# Altium integrated library Analog Devices Data Converters Digital-to-Analog Converters.IntLib: 2231 symbols (part 168 of 181)
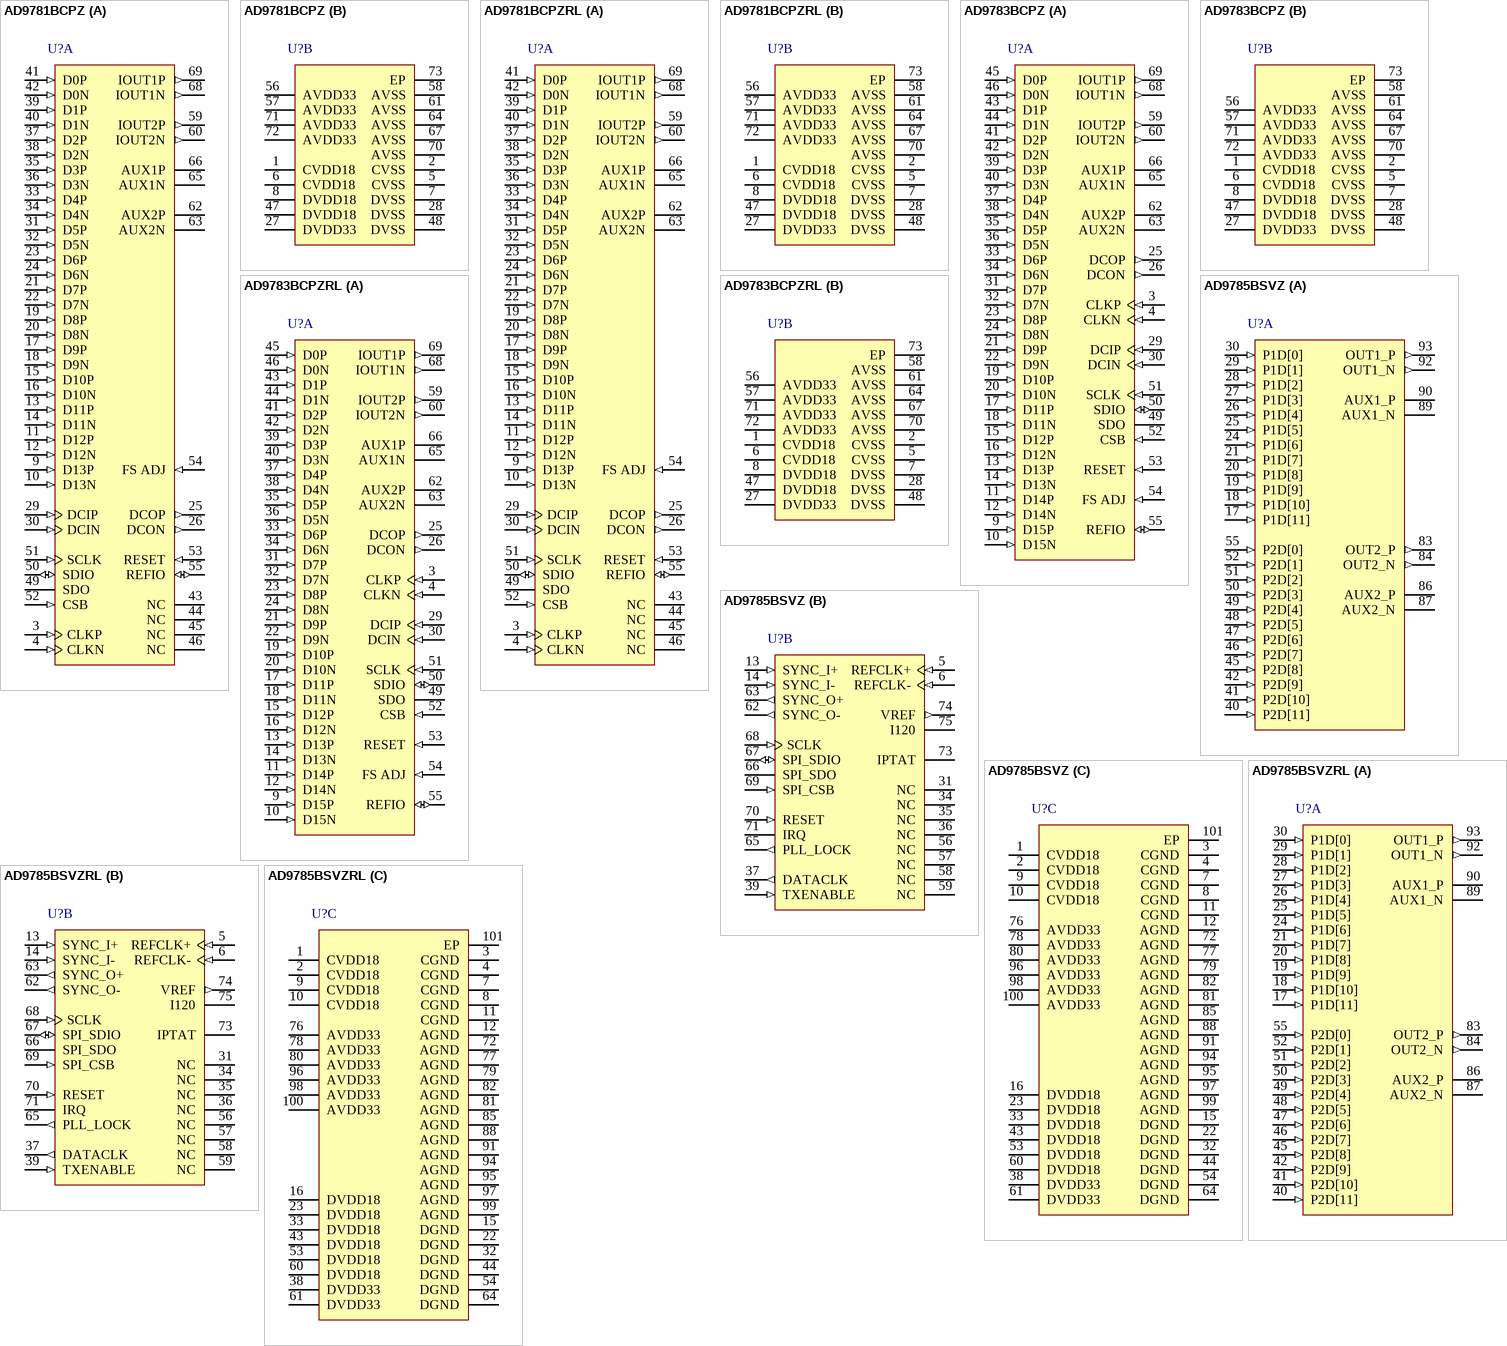
[diagram p281: symbols AD9781BCPZ to AD9785BSVZRL]

## AD9781BCPZ
designator U?
14-Bit Digital-to-Analog Converter with LVDS Interface, -40 to +85 degC, CP-72-1, Pb-Free, Tray; Generic Part Number: AD9781; Manufacturer: Analog Devices; PartNumber: AD9781BCPZ; # DAC Outputs: 2; Max V+: 3.47V; Op Pwr Diss: 462.3mW; Resolution (Bits): 14; Single Supply: No; DatasheetVersion: Rev. B; PackageVersion: 06-07-2012-A; PackageReference: CP-72-1; PackageDescription: 72-Lead Lead Frame Chip Scale Package [LFCSP_VQ] 10 x 10 mm Body, Very Thin Quad; Supplier 1: Digi-Key; Supplier Part Number 1: AD9781BCPZ-ND; Supplier 2: Mouser; Supplier Part Number 2: 584-AD9781BCPZ; Packing: Tray; RoHS: Y; Mounting Technology: Surface Mount; Code_JEDEC: MO-220-VNND-4; ComponentLink1Description: Manufacturer URL; ComponentLink1URL: http://www.analog.com/en/index.html; ComponentLink2Description: Datasheet; ComponentLink2URL: http://www.analog.com/static/imported-files/data_sheets/AD9780_9781_9783.pdf; ComponentLink3Description: Package Specification; ComponentLink3URL: http://www.analog.com/static/imported-files/packages/CP_72_1.pdf; ComponentLink4Description: Product URL; ComponentLink4URL: http://www.analog.com/en/digital-to-analog-converters/da-converters/ad9781/products/product.html
footprint CP-72-1_N (QFN, 72-Leads, Body 10x10mm, Pitch 0.5mm, Thermal Pad 4.7x4.7mm, IPC Medium Density)
footprint CP-72-1_L (QFN, 72-Leads, Body 10x10mm, Pitch 0.5mm, Thermal Pad 4.7x4.7mm, IPC High Density)
footprint CP-72-1_M (QFN, 72-Leads, Body 10x10mm, Pitch 0.5mm, Thermal Pad 4.7x4.7mm, IPC Low Density)
part A pins: 3 CLKP (in) "Differential DAC Sampling Clock Input.", 4 CLKN (in) "Differential DAC Sampling Clock Input.", 9 D13P (in) "LVDS Data Input.D13 is the MSB.", 10 D13N (in) "LVDS Data Input.D13 is the MSB.", 11 D12P (in) "LVDS Data Input.", 12 D12N (in) "LVDS Data Input.", 13 D11P (in) "LVDS Data Input.", 14 D11N (in) "LVDS Data Input.", 15 D10P (in) "LVDS Data Input.", 16 D10N (in) "LVDS Data Input.", 17 D9P (in) "LVDS Data Input.", 18 D9N (in) "LVDS Data Input.", 19 D8P (in) "LVDS Data Input.", 20 D8N (in) "LVDS Data Input.", 21 D7P (in) "LVDS Data Input.", 22 D7N (in) "LVDS Data Input.", 23 D6P (in) "LVDS Data Input.", 24 D6N (in) "LVDS Data Input.", 25 DCOP (out) "Differential Data Clock Output. Clock at the DAC sample rate.", 26 DCON (out) "Differential Data Clock Output. Clock at the DAC sample rate.", 29 DCIP (in) "Differential Data Clock Input Clock aligned with input data.", 30 DCIN (in) "Differential Data Clock Input Clock aligned with input data.", 31 D5P (in) "LVDS Data Input.", 32 D5N (in) "LVDS Data Input.", 33 D4P (in) "LVDS Data Input.", 34 D4N (in) "LVDS Data Input.", 35 D3P (in) "LVDS Data Input.", 36 D3N (in) "LVDS Data Input.", 37 D2P (in) "LVDS Data Input.", 38 D2N (in) "LVDS Data Input.", 39 D1P (in) "LVDS Data Input.", 40 D1N (in) "LVDS Data Input.", 41 D0P (in) "LVDS Data Input.D0 is the LSB.", 42 D0N (in) "LVDS Data Input.D0 is the LSB.", 43 NC "No Connection. Leave these pins floating.", 44 NC "No Connection. Leave these pins floating.", 45 NC "No Connection. Leave these pins floating.", 46 NC "No Connection. Leave these pins floating.", 49 SDO (hiz) "Serial Port Data Output.", 50 SDIO (io) "Serial Port Data Input (4-Wire Mode) or Bidirectional Serial Data Line (3-Wire Mode).", 51 SCLK (in) "Serial Port Clock Input.", 52 CSB (in) "Serial Port Chip Select (Active Low).", 53 RESET (in) "Chip Reset (Active High).", 54 FS ADJ (in) "Full-Scale Current Output Adjust.", 55 REFIO (io) "Analog Reference Input/Output (1.2 V Nominal).", 59 IOUT2P (out) "DAC Current Output. Full-scale current is sourced when all data bits are 1s.", 60 IOUT2N (out) "Complementary DAC Current Output. Full-scale current is sourced when all data bits are 0s.", 62 AUX2P (hiz) "Differential Auxiliary DAC Current Output (Channel 2).", 63 AUX2N (hiz) "Differential Auxiliary DAC Current Output (Channel 2).", 65 AUX1N (hiz) "Differential Auxiliary DAC Current Output (Channel 1).", 66 AUX1P (hiz) "Differential Auxiliary DAC Current Output (Channel 1).", 68 IOUT1N (out) "Complementary DAC Current Output. Full-scale current is sourced when all data bits are 0s.", 69 IOUT1P (out) "DAC Current Output. Full-scale current is sourced when all data bits are 1s."
part B pins: 1 CVDD18 (power) "Clock Supply Voltage (1.8 V).", 2 CVSS (power) "Clock Supply Return.", 5 CVSS (power) "Clock Supply Return.", 6 CVDD18 (power) "Clock Supply Voltage (1.8 V).", 7 DVSS (power) "Digital Common.", 8 DVDD18 (power) "Digital Supply Voltage (1.8 V).", 27 DVDD33 (power) "Digital Input and Output Pad Ring Supply Voltage (3.3 V).", 28 DVSS (power) "Digital Common.", 47 DVDD18 (power) "Digital Supply Voltage (1.8 V).", 48 DVSS (power) "Digital Common.", 56 AVDD33 (power) "Analog Supply Voltage (3.3 V).", 57 AVDD33 (power) "Analog Supply Voltage (3.3 V).", 58 AVSS (power) "Analog Common.", 61 AVSS (power) "Analog Common.", 64 AVSS (power) "Analog Common.", 67 AVSS (power) "Analog Common.", 70 AVSS (power) "Analog Common.", 71 AVDD33 (power) "Analog Supply Voltage (3.3 V).", 72 AVDD33 (power) "Analog Supply Voltage (3.3 V).", 73 EP (power) "The heat sink pad on the bottom of the package should be soldered to the PCB plane that carries AVSS."

## AD9781BCPZRL
designator U?
14-Bit Digital-to-Analog Converter with LVDS Interface, -40 to +85 degC, CP-72-1, Pb-Free, Reel; Generic Part Number: AD9781; Manufacturer: Analog Devices; PartNumber: AD9781BCPZRL; # DAC Outputs: 2; Max V+: 3.47V; Op Pwr Diss: 462.3mW; Resolution (Bits): 14; Single Supply: No; DatasheetVersion: Rev. B; PackageVersion: 06-07-2012-A; PackageReference: CP-72-1; PackageDescription: 72-Lead Lead Frame Chip Scale Package [LFCSP_VQ] 10 x 10 mm Body, Very Thin Quad; Supplier 1: Digi-Key; Supplier Part Number 1: AD9781BCPZRL-ND; Supplier 2: Mouser; Supplier Part Number 2: 584-AD9781BCPZR; Packing: Reel; RoHS: Y; Mounting Technology: Surface Mount; Code_JEDEC: MO-220-VNND-4; ComponentLink1Description: Manufacturer URL; ComponentLink1URL: http://www.analog.com/en/index.html; ComponentLink2Description: Datasheet; ComponentLink2URL: http://www.analog.com/static/imported-files/data_sheets/AD9780_9781_9783.pdf; ComponentLink3Description: Package Specification; ComponentLink3URL: http://www.analog.com/static/imported-files/packages/CP_72_1.pdf; ComponentLink4Description: Product URL; ComponentLink4URL: http://www.analog.com/en/digital-to-analog-converters/da-converters/ad9781/products/product.html
footprint CP-72-1_N (QFN, 72-Leads, Body 10x10mm, Pitch 0.5mm, Thermal Pad 4.7x4.7mm, IPC Medium Density)
footprint CP-72-1_L (QFN, 72-Leads, Body 10x10mm, Pitch 0.5mm, Thermal Pad 4.7x4.7mm, IPC High Density)
footprint CP-72-1_M (QFN, 72-Leads, Body 10x10mm, Pitch 0.5mm, Thermal Pad 4.7x4.7mm, IPC Low Density)
part A pins: 3 CLKP (in) "Differential DAC Sampling Clock Input.", 4 CLKN (in) "Differential DAC Sampling Clock Input.", 9 D13P (in) "LVDS Data Input.D13 is the MSB.", 10 D13N (in) "LVDS Data Input.D13 is the MSB.", 11 D12P (in) "LVDS Data Input.", 12 D12N (in) "LVDS Data Input.", 13 D11P (in) "LVDS Data Input.", 14 D11N (in) "LVDS Data Input.", 15 D10P (in) "LVDS Data Input.", 16 D10N (in) "LVDS Data Input.", 17 D9P (in) "LVDS Data Input.", 18 D9N (in) "LVDS Data Input.", 19 D8P (in) "LVDS Data Input.", 20 D8N (in) "LVDS Data Input.", 21 D7P (in) "LVDS Data Input.", 22 D7N (in) "LVDS Data Input.", 23 D6P (in) "LVDS Data Input.", 24 D6N (in) "LVDS Data Input.", 25 DCOP (out) "Differential Data Clock Output. Clock at the DAC sample rate.", 26 DCON (out) "Differential Data Clock Output. Clock at the DAC sample rate.", 29 DCIP (in) "Differential Data Clock Input Clock aligned with input data.", 30 DCIN (in) "Differential Data Clock Input Clock aligned with input data.", 31 D5P (in) "LVDS Data Input.", 32 D5N (in) "LVDS Data Input.", 33 D4P (in) "LVDS Data Input.", 34 D4N (in) "LVDS Data Input.", 35 D3P (in) "LVDS Data Input.", 36 D3N (in) "LVDS Data Input.", 37 D2P (in) "LVDS Data Input.", 38 D2N (in) "LVDS Data Input.", 39 D1P (in) "LVDS Data Input.", 40 D1N (in) "LVDS Data Input.", 41 D0P (in) "LVDS Data Input.D0 is the LSB.", 42 D0N (in) "LVDS Data Input.D0 is the LSB.", 43 NC "No Connection. Leave these pins floating.", 44 NC "No Connection. Leave these pins floating.", 45 NC "No Connection. Leave these pins floating.", 46 NC "No Connection. Leave these pins floating.", 49 SDO (hiz) "Serial Port Data Output.", 50 SDIO (io) "Serial Port Data Input (4-Wire Mode) or Bidirectional Serial Data Line (3-Wire Mode).", 51 SCLK (in) "Serial Port Clock Input.", 52 CSB (in) "Serial Port Chip Select (Active Low).", 53 RESET (in) "Chip Reset (Active High).", 54 FS ADJ (in) "Full-Scale Current Output Adjust.", 55 REFIO (io) "Analog Reference Input/Output (1.2 V Nominal).", 59 IOUT2P (out) "DAC Current Output. Full-scale current is sourced when all data bits are 1s.", 60 IOUT2N (out) "Complementary DAC Current Output. Full-scale current is sourced when all data bits are 0s.", 62 AUX2P (hiz) "Differential Auxiliary DAC Current Output (Channel 2).", 63 AUX2N (hiz) "Differential Auxiliary DAC Current Output (Channel 2).", 65 AUX1N (hiz) "Differential Auxiliary DAC Current Output (Channel 1).", 66 AUX1P (hiz) "Differential Auxiliary DAC Current Output (Channel 1).", 68 IOUT1N (out) "Complementary DAC Current Output. Full-scale current is sourced when all data bits are 0s.", 69 IOUT1P (out) "DAC Current Output. Full-scale current is sourced when all data bits are 1s."
part B pins: 1 CVDD18 (power) "Clock Supply Voltage (1.8 V).", 2 CVSS (power) "Clock Supply Return.", 5 CVSS (power) "Clock Supply Return.", 6 CVDD18 (power) "Clock Supply Voltage (1.8 V).", 7 DVSS (power) "Digital Common.", 8 DVDD18 (power) "Digital Supply Voltage (1.8 V).", 27 DVDD33 (power) "Digital Input and Output Pad Ring Supply Voltage (3.3 V).", 28 DVSS (power) "Digital Common.", 47 DVDD18 (power) "Digital Supply Voltage (1.8 V).", 48 DVSS (power) "Digital Common.", 56 AVDD33 (power) "Analog Supply Voltage (3.3 V).", 57 AVDD33 (power) "Analog Supply Voltage (3.3 V).", 58 AVSS (power) "Analog Common.", 61 AVSS (power) "Analog Common.", 64 AVSS (power) "Analog Common.", 67 AVSS (power) "Analog Common.", 70 AVSS (power) "Analog Common.", 71 AVDD33 (power) "Analog Supply Voltage (3.3 V).", 72 AVDD33 (power) "Analog Supply Voltage (3.3 V).", 73 EP (power) "The heat sink pad on the bottom of the package should be soldered to the PCB plane that carries AVSS."

## AD9783BCPZ
designator U?
16-Bit Digital-to-Analog Converter with LVDS Interface, -40 to +85 degC, CP-72-1, Pb-Free, Tray; Generic Part Number: AD9783; Manufacturer: Analog Devices; PartNumber: AD9783BCPZ; # DAC Outputs: 2; Max V+: 3.47V; Op Pwr Diss: 462.3mW; Resolution (Bits): 16; Single Supply: No; DatasheetVersion: Rev. B; PackageVersion: 06-07-2012-A; PackageReference: CP-72-1; PackageDescription: 72-Lead Lead Frame Chip Scale Package [LFCSP_VQ] 10 x 10 mm Body, Very Thin Quad; Supplier 1: Digi-Key; Supplier Part Number 1: AD9783BCPZ-ND; Supplier 2: Farnell; Supplier Part Number 2: 2312821; Supplier 3: Newark; Supplier Part Number 3: 61M4101; Supplier 4: Mouser; Supplier Part Number 4: 584-AD9783BCPZ; Packing: Tray; RoHS: Y; Mounting Technology: Surface Mount; Code_JEDEC: MO-220-VNND-4; ComponentLink1Description: Manufacturer URL; ComponentLink1URL: http://www.analog.com/en/index.html; ComponentLink2Description: Datasheet; ComponentLink2URL: http://www.analog.com/static/imported-files/data_sheets/AD9780_9781_9783.pdf; ComponentLink3Description: Package Specification; ComponentLink3URL: http://www.analog.com/static/imported-files/packages/CP_72_1.pdf; ComponentLink4Description: Product URL; ComponentLink4URL: http://www.analog.com/en/digital-to-analog-converters/da-converters/ad9783/products/product.html
footprint CP-72-1_N (QFN, 72-Leads, Body 10x10mm, Pitch 0.5mm, Thermal Pad 4.7x4.7mm, IPC Medium Density)
footprint CP-72-1_L (QFN, 72-Leads, Body 10x10mm, Pitch 0.5mm, Thermal Pad 4.7x4.7mm, IPC High Density)
footprint CP-72-1_M (QFN, 72-Leads, Body 10x10mm, Pitch 0.5mm, Thermal Pad 4.7x4.7mm, IPC Low Density)
part A pins: 3 CLKP (in) "Differential DAC Sampling Clock Input.", 4 CLKN (in) "Differential DAC Sampling Clock Input.", 9 D15P (in) "LVDS Data Input.D15 is the MSB.", 10 D15N (in) "LVDS Data Input.D15 is the MSB.", 11 D14P (in) "LVDS Data Input.", 12 D14N (in) "LVDS Data Input.", 13 D13P (in) "LVDS Data Input.", 14 D13N (in) "LVDS Data Input.", 15 D12P (in) "LVDS Data Input.", 16 D12N (in) "LVDS Data Input.", 17 D11P (in) "LVDS Data Input.", 18 D11N (in) "LVDS Data Input.", 19 D10P (in) "LVDS Data Input.", 20 D10N (in) "LVDS Data Input.", 21 D9P (in) "LVDS Data Input.", 22 D9N (in) "LVDS Data Input.", 23 D8P (in) "LVDS Data Input.", 24 D8N (in) "LVDS Data Input.", 25 DCOP (out) "Differential Data Clock Output. Clock at the DAC sample rate.", 26 DCON (out) "Differential Data Clock Output. Clock at the DAC sample rate.", 29 DCIP (in) "Differential Data Clock Input Clock aligned with input data.", 30 DCIN (in) "Differential Data Clock Input Clock aligned with input data.", 31 D7P (in) "LVDS Data Input.", 32 D7N (in) "LVDS Data Input.", 33 D6P (in) "LVDS Data Input.", 34 D6N (in) "LVDS Data Input.", 35 D5P (in) "LVDS Data Input.", 36 D5N (in) "LVDS Data Input.", 37 D4P (in) "LVDS Data Input.", 38 D4N (in) "LVDS Data Input.", 39 D3P (in) "LVDS Data Input.", 40 D3N (in) "LVDS Data Input.", 41 D2P (in) "LVDS Data Input.", 42 D2N (in) "LVDS Data Input.", 43 D1P (in) "LVDS Data Input.", 44 D1N (in) "LVDS Data Input.", 45 D0P (in) "LVDS Data Input.D0 is the LSB.", 46 D0N (in) "LVDS Data Input.D0 is the LSB.", 49 SDO (hiz) "Serial Port Data Output.", 50 SDIO (io) "Serial Port Data Input (4-Wire Mode) or Bidirectional Serial Data Line (3-Wire Mode).", 51 SCLK (in) "Serial Port Clock Input.", 52 CSB (in) "Serial Port Chip Select (Active Low).", 53 RESET (in) "Chip Reset (Active High).", 54 FS ADJ (in) "Full-Scale Current Output Adjust.", 55 REFIO (io) "Analog Reference Input/Output (1.2 V Nominal).", 59 IOUT2P (out) "DAC Current Output. Full-scale current is sourced when all data bits are 1s.", 60 IOUT2N (out) "Complementary DAC Current Output. Full-scale current is sourced when all data bits are 0s.", 62 AUX2P (hiz) "Differential Auxiliary DAC Current Output (Channel 2).", 63 AUX2N (hiz) "Differential Auxiliary DAC Current Output (Channel 2).", 65 AUX1N (hiz) "Differential Auxiliary DAC Current Output (Channel 1).", 66 AUX1P (hiz) "Differential Auxiliary DAC Current Output (Channel 1).", 68 IOUT1N (out) "Complementary DAC Current Output. Full-scale current is sourced when all data bits are 0s.", 69 IOUT1P (out) "DAC Current Output. Full-scale current is sourced when all data bits are 1s."
part B pins: 1 CVDD18 (power) "Clock Supply Voltage (1.8 V).", 2 CVSS (power) "Clock Supply Return.", 5 CVSS (power) "Clock Supply Return.", 6 CVDD18 (power) "Clock Supply Voltage (1.8 V).", 7 DVSS (power) "Digital Common.", 8 DVDD18 (power) "Digital Supply Voltage (1.8 V).", 27 DVDD33 (power) "Digital Input and Output Pad Ring Supply Voltage (3.3 V).", 28 DVSS (power) "Digital Common.", 47 DVDD18 (power) "Digital Supply Voltage (1.8 V).", 48 DVSS (power) "Digital Common.", 56 AVDD33 (power) "Analog Supply Voltage (3.3 V).", 57 AVDD33 (power) "Analog Supply Voltage (3.3 V).", 58 AVSS (power) "Analog Common.", 61 AVSS (power) "Analog Common.", 64 AVSS (power) "Analog Common.", 67 AVSS (power) "Analog Common.", 70 AVSS (power) "Analog Common.", 71 AVDD33 (power) "Analog Supply Voltage (3.3 V).", 72 AVDD33 (power) "Analog Supply Voltage (3.3 V).", 73 EP (power) "The heat sink pad on the bottom of the package should be soldered to the PCB plane that carries AVSS."

## AD9783BCPZRL
designator U?
16-Bit Digital-to-Analog Converter with LVDS Interface, -40 to +85 degC, CP-72-1, Pb-Free, Reel; Generic Part Number: AD9783; Manufacturer: Analog Devices; PartNumber: AD9783BCPZRL; # DAC Outputs: 2; Max V+: 3.47V; Op Pwr Diss: 462.3mW; Resolution (Bits): 16; Single Supply: No; DatasheetVersion: Rev. B; PackageVersion: 06-07-2012-A; PackageReference: CP-72-1; PackageDescription: 72-Lead Lead Frame Chip Scale Package [LFCSP_VQ] 10 x 10 mm Body, Very Thin Quad; Supplier 1: Digi-Key; Supplier Part Number 1: AD9783BCPZRL-ND; Supplier 2: Newark; Supplier Part Number 2: 61M4102; Supplier 3: Mouser; Supplier Part Number 3: 584-AD9783BCPZR; Packing: Reel; RoHS: Y; Mounting Technology: Surface Mount; Code_JEDEC: MO-220-VNND-4; ComponentLink1Description: Manufacturer URL; ComponentLink1URL: http://www.analog.com/en/index.html; ComponentLink2Description: Datasheet; ComponentLink2URL: http://www.analog.com/static/imported-files/data_sheets/AD9780_9781_9783.pdf; ComponentLink3Description: Package Specification; ComponentLink3URL: http://www.analog.com/static/imported-files/packages/CP_72_1.pdf; ComponentLink4Description: Product URL; ComponentLink4URL: http://www.analog.com/en/digital-to-analog-converters/da-converters/ad9783/products/product.html
footprint CP-72-1_N (QFN, 72-Leads, Body 10x10mm, Pitch 0.5mm, Thermal Pad 4.7x4.7mm, IPC Medium Density)
footprint CP-72-1_L (QFN, 72-Leads, Body 10x10mm, Pitch 0.5mm, Thermal Pad 4.7x4.7mm, IPC High Density)
footprint CP-72-1_M (QFN, 72-Leads, Body 10x10mm, Pitch 0.5mm, Thermal Pad 4.7x4.7mm, IPC Low Density)
part A pins: 3 CLKP (in) "Differential DAC Sampling Clock Input.", 4 CLKN (in) "Differential DAC Sampling Clock Input.", 9 D15P (in) "LVDS Data Input.D15 is the MSB.", 10 D15N (in) "LVDS Data Input.D15 is the MSB.", 11 D14P (in) "LVDS Data Input.", 12 D14N (in) "LVDS Data Input.", 13 D13P (in) "LVDS Data Input.", 14 D13N (in) "LVDS Data Input.", 15 D12P (in) "LVDS Data Input.", 16 D12N (in) "LVDS Data Input.", 17 D11P (in) "LVDS Data Input.", 18 D11N (in) "LVDS Data Input.", 19 D10P (in) "LVDS Data Input.", 20 D10N (in) "LVDS Data Input.", 21 D9P (in) "LVDS Data Input.", 22 D9N (in) "LVDS Data Input.", 23 D8P (in) "LVDS Data Input.", 24 D8N (in) "LVDS Data Input.", 25 DCOP (out) "Differential Data Clock Output. Clock at the DAC sample rate.", 26 DCON (out) "Differential Data Clock Output. Clock at the DAC sample rate.", 29 DCIP (in) "Differential Data Clock Input Clock aligned with input data.", 30 DCIN (in) "Differential Data Clock Input Clock aligned with input data.", 31 D7P (in) "LVDS Data Input.", 32 D7N (in) "LVDS Data Input.", 33 D6P (in) "LVDS Data Input.", 34 D6N (in) "LVDS Data Input.", 35 D5P (in) "LVDS Data Input.", 36 D5N (in) "LVDS Data Input.", 37 D4P (in) "LVDS Data Input.", 38 D4N (in) "LVDS Data Input.", 39 D3P (in) "LVDS Data Input.", 40 D3N (in) "LVDS Data Input.", 41 D2P (in) "LVDS Data Input.", 42 D2N (in) "LVDS Data Input.", 43 D1P (in) "LVDS Data Input.", 44 D1N (in) "LVDS Data Input.", 45 D0P (in) "LVDS Data Input.D0 is the LSB.", 46 D0N (in) "LVDS Data Input.D0 is the LSB.", 49 SDO (hiz) "Serial Port Data Output.", 50 SDIO (io) "Serial Port Data Input (4-Wire Mode) or Bidirectional Serial Data Line (3-Wire Mode).", 51 SCLK (in) "Serial Port Clock Input.", 52 CSB (in) "Serial Port Chip Select (Active Low).", 53 RESET (in) "Chip Reset (Active High).", 54 FS ADJ (in) "Full-Scale Current Output Adjust.", 55 REFIO (io) "Analog Reference Input/Output (1.2 V Nominal).", 59 IOUT2P (out) "DAC Current Output. Full-scale current is sourced when all data bits are 1s.", 60 IOUT2N (out) "Complementary DAC Current Output. Full-scale current is sourced when all data bits are 0s.", 62 AUX2P (hiz) "Differential Auxiliary DAC Current Output (Channel 2).", 63 AUX2N (hiz) "Differential Auxiliary DAC Current Output (Channel 2).", 65 AUX1N (hiz) "Differential Auxiliary DAC Current Output (Channel 1).", 66 AUX1P (hiz) "Differential Auxiliary DAC Current Output (Channel 1).", 68 IOUT1N (out) "Complementary DAC Current Output. Full-scale current is sourced when all data bits are 0s.", 69 IOUT1P (out) "DAC Current Output. Full-scale current is sourced when all data bits are 1s."
part B pins: 1 CVDD18 (power) "Clock Supply Voltage (1.8 V).", 2 CVSS (power) "Clock Supply Return.", 5 CVSS (power) "Clock Supply Return.", 6 CVDD18 (power) "Clock Supply Voltage (1.8 V).", 7 DVSS (power) "Digital Common.", 8 DVDD18 (power) "Digital Supply Voltage (1.8 V).", 27 DVDD33 (power) "Digital Input and Output Pad Ring Supply Voltage (3.3 V).", 28 DVSS (power) "Digital Common.", 47 DVDD18 (power) "Digital Supply Voltage (1.8 V).", 48 DVSS (power) "Digital Common.", 56 AVDD33 (power) "Analog Supply Voltage (3.3 V).", 57 AVDD33 (power) "Analog Supply Voltage (3.3 V).", 58 AVSS (power) "Analog Common.", 61 AVSS (power) "Analog Common.", 64 AVSS (power) "Analog Common.", 67 AVSS (power) "Analog Common.", 70 AVSS (power) "Analog Common.", 71 AVDD33 (power) "Analog Supply Voltage (3.3 V).", 72 AVDD33 (power) "Analog Supply Voltage (3.3 V).", 73 EP (power) "The heat sink pad on the bottom of the package should be soldered to the PCB plane that carries AVSS."

## AD9785BSVZ
designator U?
12-Bit Digital-to-Analog Converter with Low Power 32-Bit Complex NCO, 800 Msps, 0 to +70 degC, SV-100-1, Pb-Free, Tray; Generic Part Number: AD9785; Manufacturer: Analog Devices; PartNumber: AD9785BSVZ; # DAC Outputs: 2; Max V+: 3.47V; Op Pwr Diss: 450mW; Resolution (Bits): 12; Single Supply: No; DatasheetVersion: Rev.A; PackageVersion: 040506-A; PackageReference: SV-100-1; PackageDescription: 100-Lead Thin Quad Flat Package, Exposed Pad [TQFP_EP]; Supplier 1: Digi-Key; Supplier Part Number 1: AD9785BSVZ-ND; Supplier 2: Newark; Supplier Part Number 2: 84M7826; Supplier 3: Mouser; Supplier Part Number 3: 584-AD9785BSVZ; Packing: Tray; RoHS: Y; Mounting Technology: Surface Mount; Code_JEDEC: MS-026-AED-HD; ComponentLink1Description: Manufacturer URL; ComponentLink1URL: http://www.analog.com/en/index.html; ComponentLink2Description: Datasheet; ComponentLink2URL: http://www.analog.com/static/imported-files/data_sheets/AD9785_9787_9788.pdf; ComponentLink3Description: Package Specification; ComponentLink3URL: http://www.analog.com/static/imported-files/packages/PKG_PDF/TQFP_ED(SV)/SV_100_1.pdf; ComponentLink4Description: Product URL; ComponentLink4URL: http://www.analog.com/en/digital-to-analog-converters/da-converters/ad9785/products/product.html
footprint SV-100-1_N (Thin QFP, 100-Leads, Body 14x14mm, Pitch 0.5mm, Thermal Pad 6.5x6.5mm, IPC Medium Density)
footprint SV-100-1_L (Thin QFP, 100-Leads, Body 14x14mm, Pitch 0.5mm, Thermal Pad 6.5x6.5mm, IPC High Density)
footprint SV-100-1_M (Thin QFP, 100-Leads, Body 14x14mm, Pitch 0.5mm, Thermal Pad 6.5x6.5mm, IPC Low Density)
part A pins: 17 P1D[11] (in) "Port 1, Data Input D11 (MSB).", 18 P1D[10] (in) "Port 1, Data Input D10.", 19 P1D[9] (in) "Port 1, Data Input D9.", 20 P1D[8] (in) "Port 1, Data Input D8.", 21 P1D[7] (in) "Port 1, Data Input D7.", 24 P1D[6] (in) "Port 1, Data Input D6.", 25 P1D[5] (in) "Port 1, Data Input D5.", 26 P1D[4] (in) "Port 1, Data Input D4.", 27 P1D[3] (in) "Port 1, Data Input D3.", 28 P1D[2] (in) "Port 1, Data Input D2.", 29 P1D[1] (in) "Port 1, Data Input D1.", 30 P1D[0] (in) "Port 1, Data Input D0 (LSB).", 40 P2D[11] (in) "Port 2, Data Input D11 (MSB).", 41 P2D[10] (in) "Port 2, Data Input D10.", 42 P2D[9] (in) "Port 2, Data Input D9.", 45 P2D[8] (in) "Port 2, Data Input D8.", 46 P2D[7] (in) "Port 2, Data Input D7.", 47 P2D[6] (in) "Port 2, Data Input D6.", 48 P2D[5] (in) "Port 2, Data Input D5.", 49 P2D[4] (in) "Port 2, Data Input D4.", 50 P2D[3] (in) "Port 2, Data Input D3.", 51 P2D[2] (in) "Port 2, Data Input D2.", 52 P2D[1] (in) "Port 2, Data Input D1.", 55 P2D[0] (in) "Port 2, Data Input D0 (LSB).", 83 OUT2_P (out) "Differential DAC Current Output, Positive, Channel 2.", 84 OUT2_N (out) "Differential DAC Current Output, Negative, Channel 2.", 86 AUX2_P (hiz) "Auxiliary DAC Current Output, Positive, Channel 2.", 87 AUX2_N (hiz) "Auxiliary DAC Current Output, Negative, Channel 2.", 89 AUX1_N (hiz) "Auxiliary DAC Current Output, Negative, Channel 1.", 90 AUX1_P (hiz) "Auxiliary DAC Current Output, Positive, Channel 1.", 92 OUT1_N (out) "Differential DAC Current Output, Negative, Channel 1.", 93 OUT1_P (out) "Differential DAC Current Output, Positive, Channel 1."
part B pins: 5 REFCLK+ (in) "Differential Clock Input, Positive.", 6 REFCLK- (in) "Differential Clock Input, Negative.", 13 SYNC_I+ (in) "Differential Synchronization Input, Positive.", 14 SYNC_I- (in) "Differential Synchronization Input, Positive.", 31 NC "No Connection Necessary.", 34 NC "No Connection Necessary.", 35 NC "No Connection Necessary.", 36 NC "No Connection Necessary.", 37 DATACLK (out) "Data Clock Output.", 39 TXENABLE (in) "Transmit Enable.", 56 NC "No Connection Necessary.", 57 NC "No Connection Necessary.", 58 NC "No Connection Necessary.", 59 NC "No Connection Necessary.", 62 SYNC_O- (out) "Differential Synchronization Output, Negative.", 63 SYNC_O+ (out) "Differential Synchronization Output, Positive.", 65 PLL_LOCK (out) "PLL Lock Indicator.", 66 SPI_SDO (hiz) "SPI Port Data Output.", 67 SPI_SDIO (io) "SPI Port Data Input/Output.", 68 SCLK (in) "SPI Port Clock.", 69 SPI_CSB (in) "SPI Port Chip Select Bar.", 70 RESET (in) "Reset, Active High.", 71 IRQ (oc) "Interrupt Request.", 73 IPTAT "Factory Test Pin. Output current is proportional to absolute temperature, approximately 10 uA at 25degreesC with approximately 20 nA/degreesC slope. This pin should remain floating.", 74 VREF (out) "Voltage Reference Output.", 75 I120 "120 uA Reference Current."
part C pins: 1 CVDD18 (power) "1.8 V Clock Supply.", 2 CVDD18 (power) "1.8 V Clock Supply.", 3 CGND (power) "Clock Common.", 4 CGND (power) "Clock Common.", 7 CGND (power) "Clock Common.", 8 CGND (power) "Clock Common.", 9 CVDD18 (power) "1.8 V Clock Supply.", 10 CVDD18 (power) "1.8 V Clock Supply.", 11 CGND (power) "Clock Common.", 12 AGND (power) "Analog Common.", 15 DGND (power) "Digital Common.", 16 DVDD18 (power) "1.8 V Digital Supply.", 22 DGND (power) "Digital Common.", 23 DVDD18 (power) "1.8 V Digital Supply.", 32 DGND (power) "Digital Common.", 33 DVDD18 (power) "1.8 V Digital Supply.", 38 DVDD33 (power) "3.3 V Digital Supply.", 43 DVDD18 (power) "1.8 V Digital Supply.", 44 DGND (power) "Digital Common.", 53 DVDD18 (power) "1.8 V Digital Supply.", 54 DGND (power) "Digital Common.", 60 DVDD18 (power) "1.8 V Digital Supply.", 61 DVDD33 (power) "3.3 V Digital Supply.", 64 DGND (power) "Digital Common.", 72 AGND (power) "Analog Common.", 76 AVDD33 (power) "3.3 V Analog Supply.", 77 AGND (power) "Analog Common.", 78 AVDD33 (power) "3.3 V Analog Supply.", 79 AGND (power) "Analog Common.", 80 AVDD33 (power) "3.3 V Analog Supply.", 81 AGND (power) "Analog Common.", 82 AGND (power) "Analog Common.", 85 AGND (power) "Analog Common.", 88 AGND (power) "Analog Common.", 91 AGND (power) "Analog Common.", 94 AGND (power) "Analog Common.", 95 AGND (power) "Analog Common.", 96 AVDD33 (power) "3.3 V Analog Supply.", 97 AGND (power) "Analog Common.", 98 AVDD33 (power) "3.3 V Analog Supply.", 99 AGND (power) "Analog Common.", 100 AVDD33 (power) "3.3 V Analog Supply.", 101 EP (power) "Conductive Heat Sink. Connect to analog common (AGND)."

## AD9785BSVZRL
designator U?
12-Bit Digital-to-Analog Converter with Low Power 32-Bit Complex NCO, 800 Msps, 0 to +70 degC, SV-100-1, Pb-Free, Reel; Generic Part Number: AD9785; Manufacturer: Analog Devices; PartNumber: AD9785BSVZRL; # DAC Outputs: 2; Max V+: 3.47V; Op Pwr Diss: 450mW; Resolution (Bits): 12; Single Supply: No; DatasheetVersion: Rev.A; PackageVersion: 040506-A; PackageReference: SV-100-1; PackageDescription: 100-Lead Thin Quad Flat Package, Exposed Pad [TQFP_EP]; Supplier 1: Digi-Key; Supplier Part Number 1: AD9785BSVZRL-ND; Supplier 2: Mouser; Supplier Part Number 2: 584-AD9785BSVZR; Packing: Reel; RoHS: Y; Mounting Technology: Surface Mount; Code_JEDEC: MS-026-AED-HD; ComponentLink1Description: Manufacturer URL; ComponentLink1URL: http://www.analog.com/en/index.html; ComponentLink2Description: Datasheet; ComponentLink2URL: http://www.analog.com/static/imported-files/data_sheets/AD9785_9787_9788.pdf; ComponentLink3Description: Package Specification; ComponentLink3URL: http://www.analog.com/static/imported-files/packages/PKG_PDF/TQFP_ED(SV)/SV_100_1.pdf; ComponentLink4Description: Product URL; ComponentLink4URL: http://www.analog.com/en/digital-to-analog-converters/da-converters/ad9785/products/product.html
footprint SV-100-1_N (Thin QFP, 100-Leads, Body 14x14mm, Pitch 0.5mm, Thermal Pad 6.5x6.5mm, IPC Medium Density)
footprint SV-100-1_L (Thin QFP, 100-Leads, Body 14x14mm, Pitch 0.5mm, Thermal Pad 6.5x6.5mm, IPC High Density)
footprint SV-100-1_M (Thin QFP, 100-Leads, Body 14x14mm, Pitch 0.5mm, Thermal Pad 6.5x6.5mm, IPC Low Density)
part A pins: 17 P1D[11] (in) "Port 1, Data Input D11 (MSB).", 18 P1D[10] (in) "Port 1, Data Input D10.", 19 P1D[9] (in) "Port 1, Data Input D9.", 20 P1D[8] (in) "Port 1, Data Input D8.", 21 P1D[7] (in) "Port 1, Data Input D7.", 24 P1D[6] (in) "Port 1, Data Input D6.", 25 P1D[5] (in) "Port 1, Data Input D5.", 26 P1D[4] (in) "Port 1, Data Input D4.", 27 P1D[3] (in) "Port 1, Data Input D3.", 28 P1D[2] (in) "Port 1, Data Input D2.", 29 P1D[1] (in) "Port 1, Data Input D1.", 30 P1D[0] (in) "Port 1, Data Input D0 (LSB).", 40 P2D[11] (in) "Port 2, Data Input D11 (MSB).", 41 P2D[10] (in) "Port 2, Data Input D10.", 42 P2D[9] (in) "Port 2, Data Input D9.", 45 P2D[8] (in) "Port 2, Data Input D8.", 46 P2D[7] (in) "Port 2, Data Input D7.", 47 P2D[6] (in) "Port 2, Data Input D6.", 48 P2D[5] (in) "Port 2, Data Input D5.", 49 P2D[4] (in) "Port 2, Data Input D4.", 50 P2D[3] (in) "Port 2, Data Input D3.", 51 P2D[2] (in) "Port 2, Data Input D2.", 52 P2D[1] (in) "Port 2, Data Input D1.", 55 P2D[0] (in) "Port 2, Data Input D0 (LSB).", 83 OUT2_P (out) "Differential DAC Current Output, Positive, Channel 2.", 84 OUT2_N (out) "Differential DAC Current Output, Negative, Channel 2.", 86 AUX2_P (hiz) "Auxiliary DAC Current Output, Positive, Channel 2.", 87 AUX2_N (hiz) "Auxiliary DAC Current Output, Negative, Channel 2.", 89 AUX1_N (hiz) "Auxiliary DAC Current Output, Negative, Channel 1.", 90 AUX1_P (hiz) "Auxiliary DAC Current Output, Positive, Channel 1.", 92 OUT1_N (out) "Differential DAC Current Output, Negative, Channel 1.", 93 OUT1_P (out) "Differential DAC Current Output, Positive, Channel 1."
part B pins: 5 REFCLK+ (in) "Differential Clock Input, Positive.", 6 REFCLK- (in) "Differential Clock Input, Negative.", 13 SYNC_I+ (in) "Differential Synchronization Input, Positive.", 14 SYNC_I- (in) "Differential Synchronization Input, Positive.", 31 NC "No Connection Necessary.", 34 NC "No Connection Necessary.", 35 NC "No Connection Necessary.", 36 NC "No Connection Necessary.", 37 DATACLK (out) "Data Clock Output.", 39 TXENABLE (in) "Transmit Enable.", 56 NC "No Connection Necessary.", 57 NC "No Connection Necessary.", 58 NC "No Connection Necessary.", 59 NC "No Connection Necessary.", 62 SYNC_O- (out) "Differential Synchronization Output, Negative.", 63 SYNC_O+ (out) "Differential Synchronization Output, Positive.", 65 PLL_LOCK (out) "PLL Lock Indicator.", 66 SPI_SDO (hiz) "SPI Port Data Output.", 67 SPI_SDIO (io) "SPI Port Data Input/Output.", 68 SCLK (in) "SPI Port Clock.", 69 SPI_CSB (in) "SPI Port Chip Select Bar.", 70 RESET (in) "Reset, Active High.", 71 IRQ (oc) "Interrupt Request.", 73 IPTAT "Factory Test Pin. Output current is proportional to absolute temperature, approximately 10 uA at 25degreesC with approximately 20 nA/degreesC slope. This pin should remain floating.", 74 VREF (out) "Voltage Reference Output.", 75 I120 "120 uA Reference Current."
part C pins: 1 CVDD18 (power) "1.8 V Clock Supply.", 2 CVDD18 (power) "1.8 V Clock Supply.", 3 CGND (power) "Clock Common.", 4 CGND (power) "Clock Common.", 7 CGND (power) "Clock Common.", 8 CGND (power) "Clock Common.", 9 CVDD18 (power) "1.8 V Clock Supply.", 10 CVDD18 (power) "1.8 V Clock Supply.", 11 CGND (power) "Clock Common.", 12 AGND (power) "Analog Common.", 15 DGND (power) "Digital Common.", 16 DVDD18 (power) "1.8 V Digital Supply.", 22 DGND (power) "Digital Common.", 23 DVDD18 (power) "1.8 V Digital Supply.", 32 DGND (power) "Digital Common.", 33 DVDD18 (power) "1.8 V Digital Supply.", 38 DVDD33 (power) "3.3 V Digital Supply.", 43 DVDD18 (power) "1.8 V Digital Supply.", 44 DGND (power) "Digital Common.", 53 DVDD18 (power) "1.8 V Digital Supply.", 54 DGND (power) "Digital Common.", 60 DVDD18 (power) "1.8 V Digital Supply.", 61 DVDD33 (power) "3.3 V Digital Supply.", 64 DGND (power) "Digital Common.", 72 AGND (power) "Analog Common.", 76 AVDD33 (power) "3.3 V Analog Supply.", 77 AGND (power) "Analog Common.", 78 AVDD33 (power) "3.3 V Analog Supply.", 79 AGND (power) "Analog Common.", 80 AVDD33 (power) "3.3 V Analog Supply.", 81 AGND (power) "Analog Common.", 82 AGND (power) "Analog Common.", 85 AGND (power) "Analog Common.", 88 AGND (power) "Analog Common.", 91 AGND (power) "Analog Common.", 94 AGND (power) "Analog Common.", 95 AGND (power) "Analog Common.", 96 AVDD33 (power) "3.3 V Analog Supply.", 97 AGND (power) "Analog Common.", 98 AVDD33 (power) "3.3 V Analog Supply.", 99 AGND (power) "Analog Common.", 100 AVDD33 (power) "3.3 V Analog Supply.", 101 EP (power) "Conductive Heat Sink. Connect to analog common (AGND)."

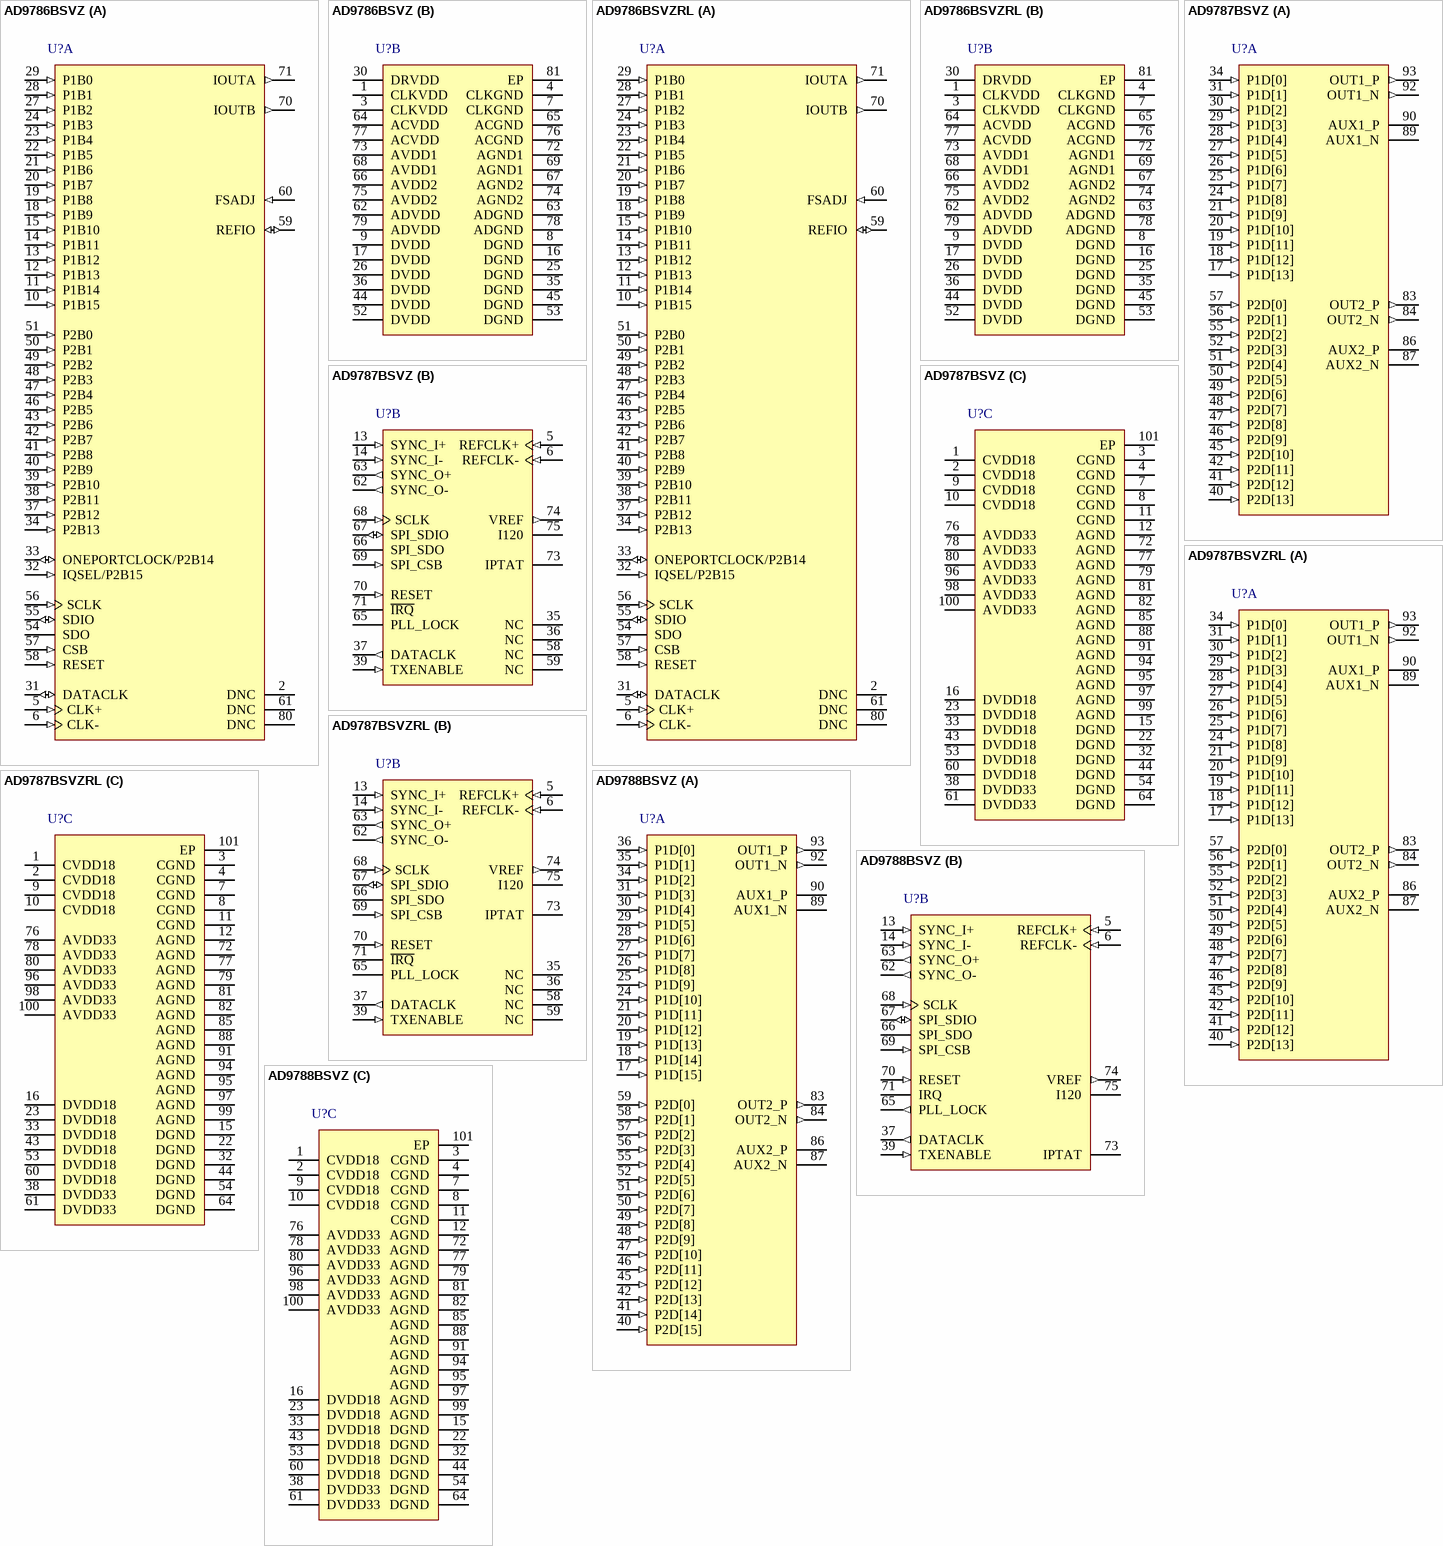
[diagram p105: symbols AD9786BSVZ to AD9788BSVZ]

## AD9786BSVZ
designator U?
Single 16-Bit TxDAC with Interpolation and Signal Processing, 200 Msps / 500 Msps, -40 to +85 degC, SV-80-1, Pb-Free, tray; Generic Part Number: AD9786; Manufacturer: Analog Devices; PartNumber: AD9786BSVZ; # DAC Outputs: 1; Max V+: 3.5V; Resolution (Bits): 16; Single Supply: No; DatasheetVersion: Rev.B; PackageVersion: Oct-2005; PackageReference: SV-80-1; PackageDescription: 80-Lead Thin Quad Flat Package, Exposed Pad [TQFP_EP]; Supplier 1: Digi-Key; Supplier Part Number 1: AD9786BSVZ-ND; Supplier 2: Farnell; Supplier Part Number 2: 1078237; Supplier 3: Newark; Supplier Part Number 3: 59K7445; Supplier 4: Mouser; Supplier Part Number 4: 584-AD9786BSVZ; Packing: tray; RoHS: Y; Mounting Technology: Surface Mount; Code_JEDEC: MS-026-ADD-HD; ComponentLink1Description: Manufacturer URL; ComponentLink1URL: http://www.analog.com/en/index.html; ComponentLink2Description: Datasheet; ComponentLink2URL: http://www.analog.com/static/imported-files/data_sheets/AD9786.pdf; ComponentLink3Description: Package Specification; ComponentLink3URL: http://www.analog.com/static/imported-files/packages/3250240192292635369SV_80_1.pdf; ComponentLink4Description: Product URL; ComponentLink4URL: http://www.analog.com/en/digital-to-analog-converters/da-converters/ad9786/products/product.html
footprint SV-80-1_N (Thin QFP, 80-Leads, Body 12x12mm, Pitch 0.5mm, Thermal Pad 6x6mm, IPC Medium Density)
footprint SV-80-1_L (Thin QFP, 80-Leads, Body 12x12mm, Pitch 0.5mm, Thermal Pad 6x6mm, IPC High Density)
footprint SV-80-1_M (Thin QFP, 80-Leads, Body 12x12mm, Pitch 0.5mm, Thermal Pad 6x6mm, IPC Low Density)
part A pins: 2 DNC "Do Not Connect.", 5 CLK+ (in) "Differential Clock Input.", 6 CLK- (in) "Differential Clock Input.", 10 P1B15 (in) "Input Data Port 1.", 11 P1B14 (in) "Input Data Port 1.", 12 P1B13 (in) "Input Data Port 1.", 13 P1B12 (in) "Input Data Port 1.", 14 P1B11 (in) "Input Data Port 1.", 15 P1B10 (in) "Input Data Port 1.", 18 P1B9 (in) "Input Data Port 1.", 19 P1B8 (in) "Input Data Port 1.", 20 P1B7 (in) "Input Data Port 1.", 21 P1B6 (in) "Input Data Port 1.", 22 P1B5 (in) "Input Data Port 1.", 23 P1B4 (in) "Input Data Port 1.", 24 P1B3 (in) "Input Data Port 1.", 27 P1B2 (in) "Input Data Port 1.", 28 P1B1 (in) "Input Data Port 1.", 29 P1B0 (in) "Input Data Port 1.", 31 DATACLK (io) "Mode 0:Pin configured for input of channel data rate or synchronizer clock,Internal clock synchronizer can be turned on or of with DCLKCRC(0x02[2]). Mode 1:Pin configured for output of channel data rate or synchronizer clock.", 32 IQSEL/P2B15 (in), 33 ONEPORTCLOCK/P2B14 (io), 34 P2B13 (in) "Input Data Port 2, Bit 13.", 37 P2B12 (in) "Input Data Port 2, Bit 12.", 38 P2B11 (in) "Input Data Port 2, Bit 11.", 39 P2B10 (in) "Input Data Port 2, Bit 10.", 40 P2B9 (in) "Input Data Port 2, Bit 9.", 41 P2B8 (in) "Input Data Port 2, Bit 8.", 42 P2B7 (in) "Input Data Port 2, Bit 7.", 43 P2B6 (in) "Input Data Port 2, Bit 6.", 46 P2B5 (in) "Input Data Port 2, Bit 5.", 47 P2B4 (in) "Input Data Port 2, Bit 4.", 48 P2B3 (in) "Input Data Port 2, Bit 3.", 49 P2B2 (in) "Input Data Port 2, Bit 2.", 50 P2B1 (in) "Input Data Port 2, Bit 1.", 51 P2B0 (in) "Input Data Port 2, Bit 0.", 54 SDO (hiz), 55 SDIO (io), 56 SCLK (in) "Serial Interface Clock.", 57 CSB (in) "Serial Interface Chip Select.", 58 RESET (in) "Resets entire chip to default state.", 59 REFIO (io) "Reference.", 60 FSADJ (in) "Full-Scale Adjust.", 61 DNC "Do Not Connect.", 70 IOUTB (out) "Differential DAC Output Currents.", 71 IOUTA (out) "Differential DAC Output Currents.", 80 DNC "Do Not Connect."
part B pins: 1 CLKVDD (power) "Clock Domain 2.5V.", 3 CLKVDD (power) "Clock Domain 2.5V.", 4 CLKGND (power) "Clock Domain 0V.", 7 CLKGND (power) "Clock Domain 0V.", 8 DGND (power) "Digital Domain, 0V.", 9 DVDD (power) "Digital Domain, 2.5V.", 16 DGND (power) "Digital Domain, 0V.", 17 DVDD (power) "Digital Domain, 2.5V.", 25 DGND (power) "Digital Domain, 0V.", 26 DVDD (power) "Digital Domain, 2.5V.", 30 DRVDD (power) "Digital Output Pin Supply, 3.3V.", 35 DGND (power) "Digital Domain, 0V.", 36 DVDD (power) "Digital Domain, 2.5V.", 44 DVDD (power) "Digital Domain, 2.5V.", 45 DGND (power) "Digital Domain, 0V.", 52 DVDD (power) "Digital Domain, 2.5V.", 53 DGND (power) "Digital Domain, 0V.", 62 ADVDD (power) "Analog Domain Digital Content 2.5V.", 63 ADGND (power) "Analog Domain Digital Content 0V.", 64 ACVDD (power) "Analog Domain Clock Content 2.5V.", 65 ACGND (power) "Analog Domain Clock Content 0V.", 66 AVDD2 (power) "Analog Domain Clock Switching 3.3V.", 67 AGND2 (power) "Analog Domain Switching 0V.", 68 AVDD1 (power) "Analog Domain Quiet 3.3V", 69 AGND1 (power) "Analog Domain Quiet 0V", 72 AGND1 (power) "Analog Domain Quiet 0V", 73 AVDD1 (power) "Analog Domain Quiet 3.3V", 74 AGND2 (power) "Analog Domain Switching 0V.", 75 AVDD2 (power) "Analog Domain Clock Switching 3.3V.", 76 ACGND (power) "Analog Domain Clock Content 0V.", 77 ACVDD (power) "Analog Domain Clock Content 2.5V.", 78 ADGND (power) "Analog Domain Digital Content 0V.", 79 ADVDD (power) "Analog Domain Digital Content 2.5V.", 81 EP "Exposed Pad."

## AD9786BSVZRL
designator U?
Single 16-Bit TxDAC with Interpolation and Signal Processing, 200 Msps / 500 Msps, -40 to +85 degC, SV-80-1, Pb-Free, Tube; Generic Part Number: AD9786; Manufacturer: Analog Devices; PartNumber: AD9786BSVZRL; # DAC Outputs: 1; Max V+: 3.5V; Resolution (Bits): 16; Single Supply: No; DatasheetVersion: Rev.B; PackageVersion: Oct-2005; PackageReference: SV-80-1; PackageDescription: 80-Lead Thin Quad Flat Package, Exposed Pad [TQFP_EP]; Supplier 1: Digi-Key; Supplier Part Number 1: AD9786BSVZRL-ND; Supplier 2: Newark; Supplier Part Number 2: 59K7446; Supplier 3: Mouser; Supplier Part Number 3: 584-AD9786BSVZR; Packing: Tube; RoHS: Y; Mounting Technology: Surface Mount; Code_JEDEC: MS-026-ADD-HD; ComponentLink1Description: Manufacturer URL; ComponentLink1URL: http://www.analog.com/en/index.html; ComponentLink2Description: Datasheet; ComponentLink2URL: http://www.analog.com/static/imported-files/data_sheets/AD9786.pdf; ComponentLink3Description: Package Specification; ComponentLink3URL: http://www.analog.com/static/imported-files/packages/3250240192292635369SV_80_1.pdf; ComponentLink4Description: Product URL; ComponentLink4URL: http://www.analog.com/en/digital-to-analog-converters/da-converters/ad9786/products/product.html
footprint SV-80-1_N (Thin QFP, 80-Leads, Body 12x12mm, Pitch 0.5mm, Thermal Pad 6x6mm, IPC Medium Density)
footprint SV-80-1_L (Thin QFP, 80-Leads, Body 12x12mm, Pitch 0.5mm, Thermal Pad 6x6mm, IPC High Density)
footprint SV-80-1_M (Thin QFP, 80-Leads, Body 12x12mm, Pitch 0.5mm, Thermal Pad 6x6mm, IPC Low Density)
part A pins: 2 DNC "Do Not Connect.", 5 CLK+ (in) "Differential Clock Input.", 6 CLK- (in) "Differential Clock Input.", 10 P1B15 (in) "Input Data Port 1.", 11 P1B14 (in) "Input Data Port 1.", 12 P1B13 (in) "Input Data Port 1.", 13 P1B12 (in) "Input Data Port 1.", 14 P1B11 (in) "Input Data Port 1.", 15 P1B10 (in) "Input Data Port 1.", 18 P1B9 (in) "Input Data Port 1.", 19 P1B8 (in) "Input Data Port 1.", 20 P1B7 (in) "Input Data Port 1.", 21 P1B6 (in) "Input Data Port 1.", 22 P1B5 (in) "Input Data Port 1.", 23 P1B4 (in) "Input Data Port 1.", 24 P1B3 (in) "Input Data Port 1.", 27 P1B2 (in) "Input Data Port 1.", 28 P1B1 (in) "Input Data Port 1.", 29 P1B0 (in) "Input Data Port 1.", 31 DATACLK (io) "Mode 0:Pin configured for input of channel data rate or synchronizer clock,Internal clock synchronizer can be turned on or of with DCLKCRC(0x02[2]). Mode 1:Pin configured for output of channel data rate or synchronizer clock.", 32 IQSEL/P2B15 (in), 33 ONEPORTCLOCK/P2B14 (io), 34 P2B13 (in) "Input Data Port 2, Bit 13.", 37 P2B12 (in) "Input Data Port 2, Bit 12.", 38 P2B11 (in) "Input Data Port 2, Bit 11.", 39 P2B10 (in) "Input Data Port 2, Bit 10.", 40 P2B9 (in) "Input Data Port 2, Bit 9.", 41 P2B8 (in) "Input Data Port 2, Bit 8.", 42 P2B7 (in) "Input Data Port 2, Bit 7.", 43 P2B6 (in) "Input Data Port 2, Bit 6.", 46 P2B5 (in) "Input Data Port 2, Bit 5.", 47 P2B4 (in) "Input Data Port 2, Bit 4.", 48 P2B3 (in) "Input Data Port 2, Bit 3.", 49 P2B2 (in) "Input Data Port 2, Bit 2.", 50 P2B1 (in) "Input Data Port 2, Bit 1.", 51 P2B0 (in) "Input Data Port 2, Bit 0.", 54 SDO (hiz), 55 SDIO (io), 56 SCLK (in) "Serial Interface Clock.", 57 CSB (in) "Serial Interface Chip Select.", 58 RESET (in) "Resets entire chip to default state.", 59 REFIO (io) "Reference.", 60 FSADJ (in) "Full-Scale Adjust.", 61 DNC "Do Not Connect.", 70 IOUTB (out) "Differential DAC Output Currents.", 71 IOUTA (out) "Differential DAC Output Currents.", 80 DNC "Do Not Connect."
part B pins: 1 CLKVDD (power) "Clock Domain 2.5V.", 3 CLKVDD (power) "Clock Domain 2.5V.", 4 CLKGND (power) "Clock Domain 0V.", 7 CLKGND (power) "Clock Domain 0V.", 8 DGND (power) "Digital Domain, 0V.", 9 DVDD (power) "Digital Domain, 2.5V.", 16 DGND (power) "Digital Domain, 0V.", 17 DVDD (power) "Digital Domain, 2.5V.", 25 DGND (power) "Digital Domain, 0V.", 26 DVDD (power) "Digital Domain, 2.5V.", 30 DRVDD (power) "Digital Output Pin Supply, 3.3V.", 35 DGND (power) "Digital Domain, 0V.", 36 DVDD (power) "Digital Domain, 2.5V.", 44 DVDD (power) "Digital Domain, 2.5V.", 45 DGND (power) "Digital Domain, 0V.", 52 DVDD (power) "Digital Domain, 2.5V.", 53 DGND (power) "Digital Domain, 0V.", 62 ADVDD (power) "Analog Domain Digital Content 2.5V.", 63 ADGND (power) "Analog Domain Digital Content 0V.", 64 ACVDD (power) "Analog Domain Clock Content 2.5V.", 65 ACGND (power) "Analog Domain Clock Content 0V.", 66 AVDD2 (power) "Analog Domain Clock Switching 3.3V.", 67 AGND2 (power) "Analog Domain Switching 0V.", 68 AVDD1 (power) "Analog Domain Quiet 3.3V", 69 AGND1 (power) "Analog Domain Quiet 0V", 72 AGND1 (power) "Analog Domain Quiet 0V", 73 AVDD1 (power) "Analog Domain Quiet 3.3V", 74 AGND2 (power) "Analog Domain Switching 0V.", 75 AVDD2 (power) "Analog Domain Clock Switching 3.3V.", 76 ACGND (power) "Analog Domain Clock Content 0V.", 77 ACVDD (power) "Analog Domain Clock Content 2.5V.", 78 ADGND (power) "Analog Domain Digital Content 0V.", 79 ADVDD (power) "Analog Domain Digital Content 2.5V.", 81 EP "Exposed Pad."

## AD9787BSVZ
designator U?
14-Bit Digital-to-Analog Converter with Low Power 32-Bit Complex NCO, 800 Msps, 0 to +70 degC, SV-100-1, Pb-Free, Tray; Generic Part Number: AD9787; Manufacturer: Analog Devices; PartNumber: AD9787BSVZ; # DAC Outputs: 2; Max V+: 3.47V; Op Pwr Diss: 450mW; Resolution (Bits): 14; Single Supply: No; DatasheetVersion: Rev.A; PackageVersion: 040506-A; PackageReference: SV-100-1; PackageDescription: 100-Lead Thin Quad Flat Package, Exposed Pad [TQFP_EP]; Supplier 1: Digi-Key; Supplier Part Number 1: AD9787BSVZ-ND; Supplier 2: Mouser; Supplier Part Number 2: 584-AD9787BSVZ; Packing: Tray; RoHS: Y; Mounting Technology: Surface Mount; Code_JEDEC: MS-026-AED-HD; ComponentLink1Description: Manufacturer URL; ComponentLink1URL: http://www.analog.com/en/index.html; ComponentLink2Description: Datasheet; ComponentLink2URL: http://www.analog.com/static/imported-files/data_sheets/AD9785_9787_9788.pdf; ComponentLink3Description: Package Specification; ComponentLink3URL: http://www.analog.com/static/imported-files/packages/PKG_PDF/TQFP_ED(SV)/SV_100_1.pdf; ComponentLink4Description: Product URL; ComponentLink4URL: http://www.analog.com/en/digital-to-analog-converters/da-converters/ad9787/products/product.html
footprint SV-100-1_N (Thin QFP, 100-Leads, Body 14x14mm, Pitch 0.5mm, Thermal Pad 6.5x6.5mm, IPC Medium Density)
footprint SV-100-1_L (Thin QFP, 100-Leads, Body 14x14mm, Pitch 0.5mm, Thermal Pad 6.5x6.5mm, IPC High Density)
footprint SV-100-1_M (Thin QFP, 100-Leads, Body 14x14mm, Pitch 0.5mm, Thermal Pad 6.5x6.5mm, IPC Low Density)
part A pins: 17 P1D[13] (in) "Port 1, Data Input D13 (MSB).", 18 P1D[12] (in) "Port 1, Data Input D12.", 19 P1D[11] (in) "Port 1, Data Input D11.", 20 P1D[10] (in) "Port 1, Data Input D10.", 21 P1D[9] (in) "Port 1, Data Input D9.", 24 P1D[8] (in) "Port 1, Data Input D8.", 25 P1D[7] (in) "Port 1, Data Input D7.", 26 P1D[6] (in) "Port 1, Data Input D6.", 27 P1D[5] (in) "Port 1, Data Input D5.", 28 P1D[4] (in) "Port 1, Data Input D4.", 29 P1D[3] (in) "Port 1, Data Input D3.", 30 P1D[2] (in) "Port 1, Data Input D2.", 31 P1D[1] (in) "Port 1, Data Input D1.", 34 P1D[0] (in) "Port 1, Data Input D0 (LSB).", 40 P2D[13] (in) "Port 2, Data Input D13 (MSB).", 41 P2D[12] (in) "Port 2, Data Input D12.", 42 P2D[11] (in) "Port 2, Data Input D11.", 45 P2D[10] (in) "Port 2, Data Input D10.", 46 P2D[9] (in) "Port 2, Data Input D9.", 47 P2D[8] (in) "Port 2, Data Input D8.", 48 P2D[7] (in) "Port 2, Data Input D7.", 49 P2D[6] (in) "Port 2, Data Input D6.", 50 P2D[5] (in) "Port 2, Data Input D5.", 51 P2D[4] (in) "Port 2, Data Input D4.", 52 P2D[3] (in) "Port 2, Data Input D3.", 55 P2D[2] (in) "Port 2, Data Input D2.", 56 P2D[1] (in) "Port 2, Data Input D1.", 57 P2D[0] (in) "Port 2, Data Input D0 (LSB).", 83 OUT2_P (out) "Differential DAC Current Output, Positive, Channel 2.", 84 OUT2_N (out) "Differential DAC Current Output, Negative, Channel 2.", 86 AUX2_P (hiz) "Auxiliary DAC Current Output, Positive, Channel 2.", 87 AUX2_N (hiz) "Auxiliary DAC Current Output, Negative, Channel 2.", 89 AUX1_N (hiz) "Auxiliary DAC Current Output, Negative, Channel 1.", 90 AUX1_P (hiz) "Auxiliary DAC Current Output, Positive, Channel 1.", 92 OUT1_N (out) "Differential DAC Current Output, Negative, Channel 1.", 93 OUT1_P (out) "Differential DAC Current Output, Positive, Channel 1."
part B pins: 5 REFCLK+ (in) "Differential Clock Input, Positive.", 6 REFCLK- (in) "Differential Clock Input, Negative.", 13 SYNC_I+ (in) "Differential Synchronization Input, Positive.", 14 SYNC_I- (in) "Differential Synchronization Input, Negative.", 35 NC "No Connection Necessary.", 36 NC "No Connection Necessary.", 37 DATACLK (out) "Data Clock Output.", 39 TXENABLE (in) "Transmit Enable.", 58 NC "No Connection Necessary.", 59 NC "No Connection Necessary.", 62 SYNC_O- (out) "Differential Synchronization Output, Negative.", 63 SYNC_O+ (out) "Differential Synchronization Output, Positive.", 65 PLL_LOCK "PLL Lock Indicator.", 66 SPI_SDO (hiz) "SPI Port Data Output", 67 SPI_SDIO (io) "SPI Port Data Input/Output.", 68 SCLK (in) "SPI Port Clock", 69 SPI_CSB (in) "SPI Port Chip Select Bar.", 70 RESET (in) "Reset, Active High.", 71 ~{IRQ} (oc) "Interrupt Request.", 73 IPTAT "Factory Test Pin. Output current is proportional to absolute temperature, approximately 10 uA at 25degreesC with approximately 20 nA/degreesC slope. This pin should remain floating.", 74 VREF (out) "Voltage Reference Output.", 75 I120 "120 uA Reference Current."
part C pins: 1 CVDD18 (power) "1.8 V Clock Supply.", 2 CVDD18 (power) "1.8 V Clock Supply.", 3 CGND (power) "Clock Common.", 4 CGND (power) "Clock Common.", 7 CGND (power) "Clock Common.", 8 CGND (power) "Clock Common.", 9 CVDD18 (power) "1.8 V Clock Supply.", 10 CVDD18 (power) "1.8 V Clock Supply.", 11 CGND (power) "Clock Common.", 12 AGND (power) "Analog Common.", 15 DGND (power) "Digital Common.", 16 DVDD18 (power) "1.8 V Digital Supply.", 22 DGND (power) "Digital Common.", 23 DVDD18 (power) "1.8 V Digital Supply.", 32 DGND (power) "Digital Common.", 33 DVDD18 (power) "1.8 V Digital Supply.", 38 DVDD33 (power) "3.3 V Digital Supply.", 43 DVDD18 (power) "1.8 V Digital Supply.", 44 DGND (power) "Digital Common.", 53 DVDD18 (power) "1.8 V Digital Supply.", 54 DGND (power) "Digital Common.", 60 DVDD18 (power) "1.8 V Digital Supply.", 61 DVDD33 (power) "3.3 V Digital Supply.", 64 DGND (power) "Digital Common.", 72 AGND (power) "Analog Common.", 76 AVDD33 (power) "3.3 V Analog Supply.", 77 AGND (power) "Analog Common.", 78 AVDD33 (power) "3.3 V Analog Supply.", 79 AGND (power) "Analog Common.", 80 AVDD33 (power) "3.3 V Analog Supply.", 81 AGND (power) "Analog Common.", 82 AGND (power) "Analog Common.", 85 AGND (power) "Analog Common.", 88 AGND (power) "Analog Common.", 91 AGND (power) "Analog Common.", 94 AGND (power) "Analog Common.", 95 AGND (power) "Analog Common.", 96 AVDD33 (power) "3.3 V Analog Supply.", 97 AGND (power) "Analog Common.", 98 AVDD33 (power) "3.3 V Analog Supply.", 99 AGND (power) "Analog Common.", 100 AVDD33 (power) "3.3 V Analog Supply.", 101 EP (power) "Conductive Heat Sink. Connect to analog common (AGND)."